# Altium schematic symbol library usbc.SchLib: 1 symbol
Pins are listed as number, name and electrical type; pins without a type are passive.

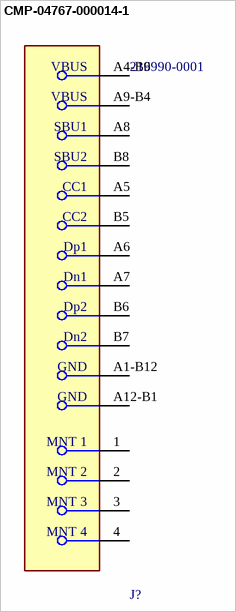
[diagram p0: symbol CMP-04767-000014-1]

## CMP-04767-000014-1
designator J?, comment 216990-0001
CONN RCP USB2.0 TYP C 24P SMD RA
footprint USBC-FP-216990-0001-MFG
pins: 1 MNT 1, 2 MNT 2, 3 MNT 3, 4 MNT 4, A1-B12 GND, A4-B9 VBUS, A5 CC1, A6 Dp1, A7 Dn1, A8 SBU1, A9-B4 VBUS, A12-B1 GND, B5 CC2, B6 Dp2, B7 Dn2, B8 SBU2